# Altium footprint library SAMTEC_TSM-110-01-F-DV.PcbLib: 1 footprints
Each footprint in its own frame and in the unit in brackets; x right, y up, seen from the top. Pads: shape width x height; smd on the part's side, far side on the other; paste and mask are expansions set on the pad; w line width, h text height; cw(c..) or ccw(c..) is an arc to the next point about the centre after c.
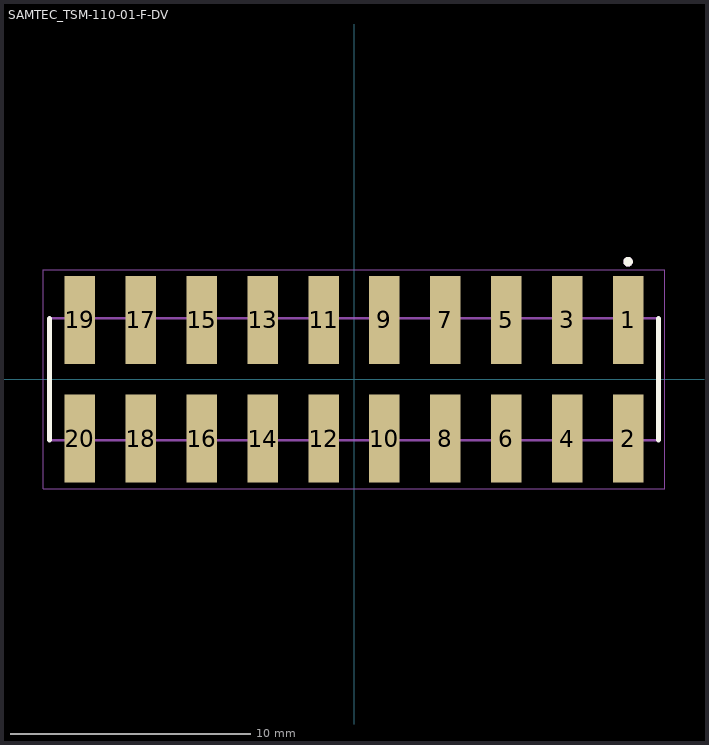
[diagram p0: the footprint, top view; thin cyan lines are the x and y axes]

## SAMTEC_TSM-110-01-F-DV [mm]
pads (20):
  rect 1.27x3.68 smd: 1(11.43,2.475) 2(11.43,-2.475) 3(8.89,2.475) 4(8.89,-2.475) 5(6.35,2.475) 6(6.35,-2.475) 7(3.81,2.475) 8(3.81,-2.475) 9(1.27,2.475) 10(1.27,-2.475) 11(-1.27,2.475) 12(-1.27,-2.475) 13(-3.81,2.475) 14(-3.81,-2.475) 15(-6.35,2.475) 16(-6.35,-2.475) 17(-8.89,2.475) 18(-8.89,-2.475) 19(-11.43,2.475) 20(-11.43,-2.475)
Top Overlay:
  circle w0.2: c11.43,4.9 r0.1
  lines w0.2: -12.7,-2.54 -12.7,2.54 ; 12.7,-2.54 12.7,2.54
Mechanical 13:
  circle w0.2: c11.43,4.9 r0.1
  lines w0.1: -12.7,-2.54 12.7,-2.54 12.7,2.54 -12.7,2.54 -12.7,-2.54
Mechanical 15:
  lines w0.05: -12.95,-4.565 12.95,-4.565 12.95,4.565 -12.95,4.565 -12.95,-4.565
3D body "step_temp.STEP": height 9.91, standoff 0, extent -12.7,-3.848 12.7,3.848